# Altium footprint library HyTechDevices.PCBLIB: 298 footprints (part 2 of 19)
Each footprint in its own frame and in the unit in brackets; x right, y up, seen from the top. Pads: shape width x height; smd on the part's side, far side on the other; paste and mask are expansions set on the pad; w line width, h text height; cw(c..) or ccw(c..) is an arc to the next point about the centre after c.
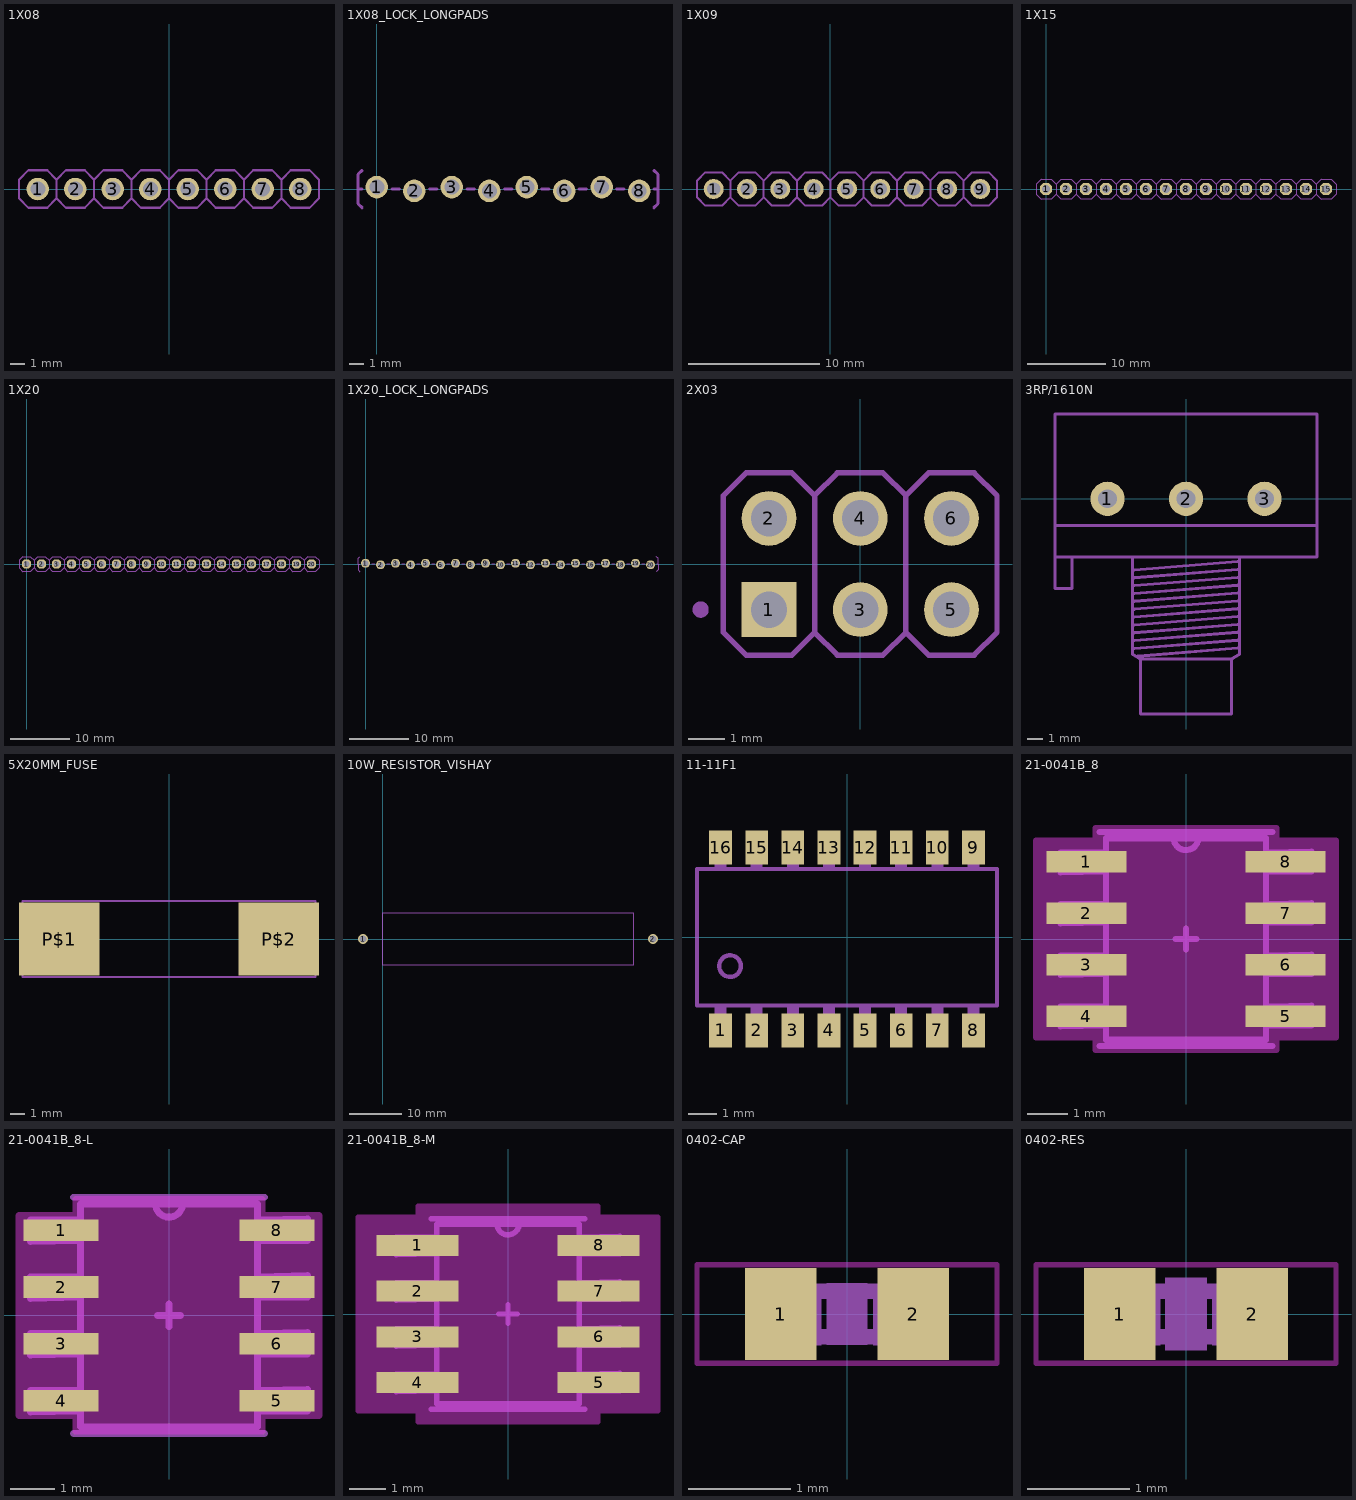
[diagram p1: the footprints below, top view; thin cyan lines are the x and y axes]

## 1X08 [mil]
pads (8):
  round 60 hole 40: 1(-350,0) 2(-250,0) 3(-150,0) 4(-50,0) 5(50,0) 6(150,0) 7(250,0) 8(350,0)
Mechanical 3:
  region: 240,-10 240,10 260,10 260,-10
  region: 140,-10 140,10 160,10 160,-10
  region: 40,-10 40,10 60,10 60,-10
  region: -60,-10 -60,10 -40,10 -40,-10
  region: -160,-10 -160,10 -140,10 -140,-10
  region: -260,-10 -260,10 -240,10 -240,-10
  region: -360,-10 -360,10 -340,10 -340,-10
  region: 340,-10 340,10 360,10 360,-10
Mechanical 7:
  lines w6: -300,-25 -300,25 ; -300,-25 -325,-50 -375,-50 -400,-25 -400,25 -375,50 -325,50 -300,25 ; -300,-25 -275,-50 -225,-50 -200,-25 ; -300,25 -275,50 -225,50 -200,25 ; -200,-25 -175,-50 -125,-50 -100,-25 ; -200,-25 -200,25 ; -200,25 -175,50 -125,50 -100,25 ; -100,-25 -100,25 ; -100,-25 -75,-50 -25,-50 0,-25 ; -100,25 -75,50 -25,50 0,25 ; 0,-25 0,25 ; 0,-25 25,-50 75,-50 100,-25 ; 0,25 25,50 75,50 100,25 ; 100,-25 125,-50 175,-50 200,-25 ; 100,-25 100,25 ; 100,25 125,50 175,50 200,25 ; 200,-25 200,25 ; 200,-25 225,-50 275,-50 300,-25 ; 200,25 225,50 275,50 300,25 ; 300,-25 300,25 ; 300,-25 325,-50 375,-50 400,-25 400,25 375,50 325,50 300,25

## 1X08_LOCK_LONGPADS [mil]
pads (8):
  round 60 hole 40: 1(0,5) 2(100,-5) 3(200,5) 4(300,-5) 5(400,5) 6(500,-5) 7(600,5) 8(700,-5)
Mechanical 3:
  region: -11.5,-11.5 -11.5,11.5 11.5,11.5 11.5,-11.5
  region: 88.5,-11.5 88.5,11.5 111.5,11.5 111.5,-11.5
  region: 188.5,-11.5 188.5,11.5 211.5,11.5 211.5,-11.5
  region: 311.5,-11.5 288.5,-11.5 288.5,11.5 311.5,11.5
  region: 388.5,-11.5 388.5,11.5 411.5,11.5 411.5,-11.5
  region: 488.5,-11.5 488.5,11.5 511.5,11.5 511.5,-11.5
  region: 588.5,-11.5 588.5,11.5 611.5,11.5 611.5,-11.5
  region: 688.5,-11.5 688.5,11.5 711.5,11.5 711.5,-11.5
Mechanical 7:
  lines w8: -40,0 -50,0 ; -39,-50 -50,-39 -50,0 ; -39,50 -50,39 -50,0 ; 40,0 60,0 ; 140,0 160,0 ; 240,0 260,0 ; 340,0 360,0 ; 440,0 460,0 ; 540,0 560,0 ; 640,0 660,0 ; 739,-50 750,-39 750,0 ; 739,50 750,39 750,0 ; 740,0 750,0

## 1X09 [mil]
pads (9):
  round 60 hole 40: 1(-350,0) 2(-250,0) 3(-150,0) 4(-50,0) 5(50,0) 6(150,0) 7(250,0) 8(350,0) 9(450,0)
Mechanical 3:
  region: 240,-10 240,10 260,10 260,-10
  region: 140,-10 140,10 160,10 160,-10
  region: 40,-10 40,10 60,10 60,-10
  region: -60,-10 -60,10 -40,10 -40,-10
  region: -160,-10 -160,10 -140,10 -140,-10
  region: -260,-10 -260,10 -240,10 -240,-10
  region: -360,-10 -360,10 -340,10 -340,-10
  region: 340,-10 340,10 360,10 360,-10
  region: 440,-10 440,10 460,10 460,-10
Mechanical 7:
  lines w6: -300,-25 -300,25 ; -300,-25 -325,-50 -375,-50 -400,-25 -400,25 -375,50 -325,50 -300,25 ; -300,-25 -275,-50 -225,-50 -200,-25 ; -300,25 -275,50 -225,50 -200,25 ; -200,-25 -175,-50 -125,-50 -100,-25 ; -200,-25 -200,25 ; -200,25 -175,50 -125,50 -100,25 ; -100,-25 -100,25 ; -100,-25 -75,-50 -25,-50 0,-25 ; -100,25 -75,50 -25,50 0,25 ; 0,-25 0,25 ; 0,-25 25,-50 75,-50 100,-25 ; 0,25 25,50 75,50 100,25 ; 100,-25 125,-50 175,-50 200,-25 ; 100,-25 100,25 ; 100,25 125,50 175,50 200,25 ; 200,-25 200,25 ; 200,-25 225,-50 275,-50 300,-25 ; 200,25 225,50 275,50 300,25 ; 300,-25 300,25 ; 300,-25 325,-50 375,-50 400,-25 ; 300,25 325,50 375,50 400,25 ; 400,-25 400,25 ; 400,-25 425,-50 475,-50 500,-25 500,25 475,50 425,50 400,25

## 1X15 [mil]
pads (15):
  oct 60x60 / inner round 55.43 / far side oct 60x60 hole 40: 1(0,0) 2(100,0) 3(200,0) 4(300,0) 5(400,0) 6(500,0) 7(600,0) 8(700,0) 9(800,0) 10(900,0) 11(1000,0) 12(1100,0) 13(1200,0) 14(1300,0) 15(1400,0)
Mechanical 3:
  region: 590,-10 590,10 610,10 610,-10
  region: 490,-10 490,10 510,10 510,-10
  region: 390,-10 390,10 410,10 410,-10
  region: 290,-10 290,10 310,10 310,-10
  region: 190,-10 190,10 210,10 210,-10
  region: 90,-10 90,10 110,10 110,-10
  region: -10,-10 -10,10 10,10 10,-10
  region: 690,-10 690,10 710,10 710,-10
  region: 1390,-10 1390,10 1410,10 1410,-10
  region: 1290,-10 1290,10 1310,10 1310,-10
  region: 1190,-10 1190,10 1210,10 1210,-10
  region: 1090,-10 1090,10 1110,10 1110,-10
  region: 990,-10 990,10 1010,10 1010,-10
  region: 890,-10 890,10 910,10 910,-10
  region: 790,-10 790,10 810,10 810,-10
Mechanical 7:
  lines w6: 50,-25 50,25 ; 50,-25 25,-50 -25,-50 -50,-25 -50,25 -25,50 25,50 50,25 ; 50,-25 75,-50 125,-50 150,-25 ; 50,25 75,50 125,50 150,25 ; 150,-25 175,-50 225,-50 250,-25 ; 150,-25 150,25 ; 150,25 175,50 225,50 250,25 ; 250,-25 250,25 ; 250,-25 275,-50 325,-50 350,-25 ; 250,25 275,50 325,50 350,25 ; 350,-25 350,25 ; 350,-25 375,-50 425,-50 450,-25 ; 350,25 375,50 425,50 450,25 ; 450,-25 475,-50 525,-50 550,-25 ; 450,-25 450,25 ; 450,25 475,50 525,50 550,25 ; 550,-25 550,25 ; 550,-25 575,-50 625,-50 650,-25 ; 550,25 575,50 625,50 650,25 ; 650,-25 650,25 ; 650,-25 675,-50 725,-50 750,-25 ; 650,25 675,50 725,50 750,25 ; 750,-25 750,25 ; 750,-25 775,-50 825,-50 850,-25 ; 750,25 775,50 825,50 850,25 ; 850,-25 850,25 ; 850,-25 875,-50 925,-50 950,-25 ; 850,25 875,50 925,50 950,25 ; 950,-25 975,-50 1025,-50 1050,-25 ; 950,-25 950,25 ; 950,25 975,50 1025,50 1050,25 ; 1050,-25 1050,25 ; 1050,-25 1075,-50 1125,-50 1150,-25 ; 1050,25 1075,50 1125,50 1150,25 ; 1150,-25 1150,25 ; 1150,-25 1175,-50 1225,-50 1250,-25 ; 1150,25 1175,50 1225,50 1250,25 ; 1250,-25 1275,-50 1325,-50 1350,-25 ; 1250,-25 1250,25 ; 1250,25 1275,50 1325,50 1350,25 ; 1350,-25 1350,25 ; 1350,-25 1375,-50 1425,-50 1450,-25 1450,25 1425,50 1375,50 1350,25

## 1X20 [mil]
pads (20):
  oct 60x60 / inner round 55.43 / far side oct 60x60 hole 40: 1(0,0) 2(100,0) 3(200,0) 4(300,0) 5(400,0) 6(500,0) 7(600,0) 8(700,0) 9(800,0) 10(900,0) 11(1000,0) 12(1100,0) 13(1200,0) 14(1300,0) 15(1400,0) 16(1500,0) 17(1600,0) 18(1700,0) 19(1800,0) 20(1900,0)
Mechanical 3:
  region: 590,-10 590,10 610,10 610,-10
  region: 490,-10 490,10 510,10 510,-10
  region: 390,-10 390,10 410,10 410,-10
  region: 290,-10 290,10 310,10 310,-10
  region: 190,-10 190,10 210,10 210,-10
  region: 90,-10 90,10 110,10 110,-10
  region: -10,-10 -10,10 10,10 10,-10
  region: 690,-10 690,10 710,10 710,-10
  region: 1390,-10 1390,10 1410,10 1410,-10
  region: 1290,-10 1290,10 1310,10 1310,-10
  region: 1190,-10 1190,10 1210,10 1210,-10
  region: 1090,-10 1090,10 1110,10 1110,-10
  region: 990,-10 990,10 1010,10 1010,-10
  region: 890,-10 890,10 910,10 910,-10
  region: 790,-10 790,10 810,10 810,-10
  region: 1490,-10 1490,10 1510,10 1510,-10
  region: 1790,-10 1790,10 1810,10 1810,-10
  region: 1690,-10 1690,10 1710,10 1710,-10
  region: 1590,-10 1590,10 1610,10 1610,-10
  region: 1890,-10 1890,10 1910,10 1910,-10
Mechanical 7:
  lines w6: 50,-25 50,25 ; 50,-25 25,-50 -25,-50 -50,-25 -50,25 -25,50 25,50 50,25 ; 50,-25 75,-50 125,-50 150,-25 ; 50,25 75,50 125,50 150,25 ; 150,-25 175,-50 225,-50 250,-25 ; 150,-25 150,25 ; 150,25 175,50 225,50 250,25 ; 250,-25 250,25 ; 250,-25 275,-50 325,-50 350,-25 ; 250,25 275,50 325,50 350,25 ; 350,-25 350,25 ; 350,-25 375,-50 425,-50 450,-25 ; 350,25 375,50 425,50 450,25 ; 450,-25 475,-50 525,-50 550,-25 ; 450,-25 450,25 ; 450,25 475,50 525,50 550,25 ; 550,-25 550,25 ; 550,-25 575,-50 625,-50 650,-25 ; 550,25 575,50 625,50 650,25 ; 650,-25 650,25 ; 650,-25 675,-50 725,-50 750,-25 ; 650,25 675,50 725,50 750,25 ; 750,-25 750,25 ; 750,-25 775,-50 825,-50 850,-25 ; 750,25 775,50 825,50 850,25 ; 850,-25 850,25 ; 850,-25 875,-50 925,-50 950,-25 ; 850,25 875,50 925,50 950,25 ; 950,-25 975,-50 1025,-50 1050,-25 ; 950,-25 950,25 ; 950,25 975,50 1025,50 1050,25 ; 1050,-25 1050,25 ; 1050,-25 1075,-50 1125,-50 1150,-25 ; 1050,25 1075,50 1125,50 1150,25 ; 1150,-25 1150,25 ; 1150,-25 1175,-50 1225,-50 1250,-25 ; 1150,25 1175,50 1225,50 1250,25 ; 1250,-25 1275,-50 1325,-50 1350,-25 ; 1250,-25 1250,25 ; 1250,25 1275,50 1325,50 1350,25 ; 1350,-25 1350,25 ; 1350,-25 1375,-50 1425,-50 1450,-25 ; 1350,25 1375,50 1425,50 1450,25 ; 1450,-25 1450,25 ; 1450,-25 1475,-50 1525,-50 1550,-25 ; 1450,25 1475,50 1525,50 1550,25 ; 1550,-25 1550,25 ; 1550,-25 1575,-50 1625,-50 1650,-25 ; 1550,25 1575,50 1625,50 1650,25 ; 1650,-25 1675,-50 1725,-50 1750,-25 ; 1650,-25 1650,25 ; 1650,25 1675,50 1725,50 1750,25 ; 1750,-25 1750,25 ; 1750,-25 1775,-50 1825,-50 1850,-25 ; 1750,25 1775,50 1825,50 1850,25 ; 1850,-25 1850,25 ; 1850,-25 1875,-50 1925,-50 1950,-25 1950,25 1925,50 1875,50 1850,25

## 1X20_LOCK_LONGPADS [mil]
pads (20):
  round 60 hole 40: 1(0,5) 2(100,-5) 3(200,5) 4(300,-5) 5(400,5) 6(500,-5) 7(600,5) 8(700,-5) 9(800,5) 10(900,-5) 11(1000,5) 12(1100,-5) 13(1200,5) 14(1300,-5) 15(1400,5) 16(1500,-5) 17(1600,5) 18(1700,-5) 19(1800,5) 20(1900,-5)
Mechanical 3:
  region: -11.5,-11.5 -11.5,11.5 11.5,11.5 11.5,-11.5
  region: 88.5,-11.5 88.5,11.5 111.5,11.5 111.5,-11.5
  region: 188.5,-11.5 188.5,11.5 211.5,11.5 211.5,-11.5
  region: 311.5,-11.5 288.5,-11.5 288.5,11.5 311.5,11.5
  region: 388.5,-11.5 388.5,11.5 411.5,11.5 411.5,-11.5
  region: 488.5,-11.5 488.5,11.5 511.5,11.5 511.5,-11.5
  region: 588.5,-11.5 588.5,11.5 611.5,11.5 611.5,-11.5
  region: 688.5,-11.5 688.5,11.5 711.5,11.5 711.5,-11.5
  region: 788.5,-11.5 788.5,11.5 811.5,11.5 811.5,-11.5
  region: 911.5,-11.5 888.5,-11.5 888.5,11.5 911.5,11.5
  region: 988.5,-11.5 988.5,11.5 1011.5,11.5 1011.5,-11.5
  region: 1088.5,-11.5 1088.5,11.5 1111.5,11.5 1111.5,-11.5
  region: 1188.5,-11.5 1188.5,11.5 1211.5,11.5 1211.5,-11.5
  region: 1288.5,-11.5 1288.5,11.5 1311.5,11.5 1311.5,-11.5
  region: 1388.5,-11.5 1388.5,11.5 1411.5,11.5 1411.5,-11.5
  region: 1511.5,-11.5 1488.5,-11.5 1488.5,11.5 1511.5,11.5
  region: 1588.5,-11.5 1588.5,11.5 1611.5,11.5 1611.5,-11.5
  region: 1688.5,-11.5 1688.5,11.5 1711.5,11.5 1711.5,-11.5
  region: 1788.5,-11.5 1788.5,11.5 1811.5,11.5 1811.5,-11.5
  region: 1888.5,-11.5 1888.5,11.5 1911.5,11.5 1911.5,-11.5
Mechanical 7:
  lines w8: -40,0 -50,0 ; -39,-50 -50,-39 -50,0 ; -39,50 -50,39 -50,0 ; 40,0 60,0 ; 140,0 160,0 ; 240,0 260,0 ; 340,0 360,0 ; 440,0 460,0 ; 540,0 560,0 ; 640,0 660,0 ; 740,0 760,0 ; 840,0 860,0 ; 940,0 960,0 ; 1040,0 1060,0 ; 1140,0 1160,0 ; 1240,0 1250,0 1260,0 ; 1340,0 1360,0 ; 1440,0 1460,0 ; 1540,0 1560,0 ; 1640,0 1660,0 ; 1740,0 1760,0 ; 1840,0 1860,0 ; 1939,-50 1950,-39 1950,0 ; 1939,50 1950,39 1950,0 ; 1940,0 1950,0

## 2X03 [mil]
pads (6):
  rect 60x60 / inner round 55.43 / far side rect 60x60 hole 40: 1(-100,-50)
  round 60 hole 40: 2(-100,50) 3(0,-50) 4(0,50) 5(100,-50) 6(100,50)
Mechanical 3:
  region: -110,-60 -110,-40 -90,-40 -90,-60
  region: -110,40 -110,60 -90,60 -90,40
  region: -10,40 -10,60 10,60 10,40
  region: -10,-60 -10,-40 10,-40 10,-60
  region: 90,40 90,60 110,60 110,40
  region: 90,-60 90,-40 110,-40 110,-60
Mechanical 7:
  circle w10: c-175,-50 r3.94
  lines w6: -50,-75 -75,-100 -125,-100 -150,-75 -150,75 -125,100 -75,100 -50,75 ; -50,-75 -25,-100 25,-100 50,-75 ; -50,-75 -50,75 ; -50,75 -25,100 25,100 50,75 ; 50,-75 50,75 ; 50,-75 75,-100 125,-100 150,-75 150,75 125,100 75,100 50,75

## 3RP/1610N [mil]
pads (3):
  round 86 hole 47.24: 1(-196.85,0) 2(0,0) 3(196.85,0)
Mechanical 7:
  lines w8: -328.74,-66.93 328.74,-66.93 ; -285.43,-149.61 -285.43,-224.41 -328.74,-224.41 -328.74,-145.67 ; -133.86,-149.61 -133.86,-389.76 -114.17,-401.57 ; -129.92,-375 129.92,-354.33 ; -129.92,-355.32 129.92,-334.65 ; -129.92,-335.63 129.92,-314.96 ; -129.92,-315.94 129.92,-295.28 ; -129.92,-296.26 129.92,-275.59 ; -129.92,-276.57 129.92,-255.91 ; -129.92,-256.89 129.92,-236.22 ; -129.92,-237.2 129.92,-216.54 ; -129.92,-217.52 129.92,-196.85 ; -129.92,-197.83 129.92,-177.17 ; -129.92,-178.15 129.92,-157.48 ; -121.06,-394.69 129.92,-374.02 ; 133.86,-149.61 133.86,-389.76 114.17,-401.57 ; -328.74,-145.67 328.74,-145.67 328.74,212.6 -328.74,212.6 -328.74,-145.67 ; -114.17,-401.57 -114.17,-539.37 114.17,-539.37 114.17,-401.57 ; -114.17,-401.57 114.17,-401.57

## 5X20MM_FUSE [mm]
pads (2):
  rect 5.5x5 smd: P$1(-7.5,0) P$2(7.5,0)
Mechanical 7:
  lines w0.127: -10,-2.6 10,-2.6 10,2.6 -10,2.6 -10,-2.6

## 10W_RESISTOR_VISHAY [mil]
pads (2):
  round 76.77 hole 51.18: 1(-150,0) 2(2050,0)
Mechanical 7:
  lines w5: 0,-200 0,200 1900,200 1900,-200 0,-200
  text "POWER RESISTOR" at 600,0 h77.5

## 11-11F1 [mil]
pads (16):
  rect 31.5x47.24 smd: 1(-175,-129.02) 2(-125,-129.02) 3(-75,-129.02) 4(-25,-129.02) 5(25,-129.02) 6(75,-129.02) 7(125,-129.02) 8(175,-129.02) 9(175,124.02) 10(125,124.02) 11(75,124.02) 12(25,124.02) 13(-25,124.02) 14(-75,124.02) 15(-125,124.02) 16(-175,124.02)
Mechanical 3:
  region: 167,93.02 167,133.02 183,133.02 183,93.02
  region: 117,93.02 117,133.02 133,133.02 133,93.02
  region: 67,93.02 67,133.02 83,133.02 83,93.02
  region: 17,93.02 17,133.02 33,133.02 33,93.02
  region: -33,93.02 -33,133.02 -17,133.02 -17,93.02
  region: -83,93.02 -83,133.02 -67,133.02 -67,93.02
  region: -133,93.02 -133,133.02 -117,133.02 -117,93.02
  region: -183,93.02 -183,133.02 -167,133.02 -167,93.02
  region: -183,-133.02 -183,-93.02 -167,-93.02 -167,-133.02
  region: -133,-133.02 -133,-93.02 -117,-93.02 -117,-133.02
  region: -83,-133.02 -83,-93.02 -67,-93.02 -67,-133.02
  region: -33,-133.02 -33,-93.02 -17,-93.02 -17,-133.02
  region: 17,-133.02 17,-93.02 33,-93.02 33,-133.02
  region: 67,-133.02 67,-93.02 83,-93.02 83,-133.02
  region: 117,-133.02 117,-93.02 133,-93.02 133,-133.02
  region: 167,-133.02 167,-93.02 183,-93.02 183,-133.02
Mechanical 7:
  circle w6: c-162,-40 r15
  lines w6: -207.68,-94.49 207.68,-94.49 207.68,94.49 -207.68,94.49 -207.68,-94.49
  text "16" at -145,-5 h62

## 21-0041B_8 [mil]
pads (8):
  rect 78x21 smd: 1(-97,75) 2(-97,25) 3(-97,-25) 4(-97,-75) 5(97,-75) 6(97,-25) 7(97,25) 8(97,75)
Top Layer keep-out:
  region: -146,-95.5 -146,95.5 -88.5,95.5 -88.5,108.5 88.5,108.5 88.5,95.5 146,95.5 146,-95.5 88.5,-95.5 88.5,-108.5 -88.5,-108.5 -88.5,-95.5
  lines w6: -146,-96 -146,96 -88,96 -88,108 88,108 88,96 146,96 146,-96 88,-96 88,-108 -88,-108 -88,-96 -146,-96
Mechanical 3:
  lines w6: 12,99 cw(c0,98.5) -12,98 ; -12,98 78,98 78,-98 -78,-98 -78,98 -12,98 ; -122,-85 -122,-66 -78,-66 -78,-84 -122,-85 ; -122,-35 -122,-16 -78,-16 -78,-34 -122,-35 ; -122,15 -122,34 -79,34 -78,16 -122,15 ; -122,65 -122,84 -79,84 -78,66 -122,65 ; 78,-66 79,-84 122,-84 122,-65 78,-66 ; 78,-34 78,-16 122,-15 122,-34 78,-34 ; 78,16 78,34 122,35 122,16 78,16 ; 78,66 78,84 122,85 122,66 78,66
  text "*" at -86,46 h77.5
Mechanical 7:
  lines w6: -84,-104 84,-104 ; -84,104 84,104
  text "*" at -130,91 h77.5
Top Component Center:
  lines w6: -10,0 10,0 ; 0,-10 0,10

## 21-0041B_8-L [mil]
pads (8):
  rect 66x19 smd: 1(-95,75) 2(-95,25) 3(-95,-25) 4(-95,-75) 5(95,-75) 6(95,-25) 7(95,25) 8(95,75)
Top Layer keep-out:
  region: -132,-88.5 -132,88.5 -82.5,88.5 -82.5,102.5 82.5,102.5 82.5,88.5 132,88.5 132,-88.5 82.5,-88.5 82.5,-102.5 -82.5,-102.5 -82.5,-88.5
  lines w6: -132,-88 -132,88 -82,88 -82,102 82,102 82,88 132,88 132,-88 82,-88 82,-102 -82,-102 -82,-88 -132,-88
Mechanical 3:
  lines w6: 12,99 cw(c0,98.5) -12,98 ; -12,98 78,98 78,-98 -78,-98 -78,98 -12,98 ; -122,-85 -122,-66 -78,-66 -78,-84 -122,-85 ; -122,-35 -122,-16 -78,-16 -78,-34 -122,-35 ; -122,15 -122,34 -79,34 -78,16 -122,15 ; -122,65 -122,84 -79,84 -78,66 -122,65 ; 78,-66 79,-84 122,-84 122,-65 78,-66 ; 78,-34 78,-16 122,-15 122,-34 78,-34 ; 78,16 78,34 122,35 122,16 78,16 ; 78,66 78,84 122,85 122,66 78,66
  text "*" at -86,46 h77.5
Mechanical 7:
  lines w6: -84,-104 84,-104 ; -84,104 84,104
  text "*" at -128,89 h77.5
Top Component Center:
  lines w6: -10,0 10,0 ; 0,-10 0,10

## 21-0041B_8-M [mil]
pads (8):
  rect 90x23 smd: 1(-99,75) 2(-99,25) 3(-99,-25) 4(-99,-75) 5(99,-75) 6(99,-25) 7(99,25) 8(99,75)
Top Layer keep-out:
  region: -164,-106.5 -164,106.5 -98.5,106.5 -98.5,118.5 98.5,118.5 98.5,106.5 164,106.5 164,-106.5 98.5,-106.5 98.5,-118.5 -98.5,-118.5 -98.5,-106.5
  lines w6: -164,-106 -164,106 -98,106 -98,118 98,118 98,106 164,106 164,-106 98,-106 98,-118 -98,-118 -98,-106 -164,-106
Mechanical 3:
  lines w6: 12,99 cw(c0,98.5) -12,98 ; -12,98 78,98 78,-98 -78,-98 -78,98 -12,98 ; -122,-85 -122,-66 -78,-66 -78,-84 -122,-85 ; -122,-35 -122,-16 -78,-16 -78,-34 -122,-35 ; -122,15 -122,34 -79,34 -78,16 -122,15 ; -122,65 -122,84 -79,84 -78,66 -122,65 ; 78,-66 79,-84 122,-84 122,-65 78,-66 ; 78,-34 78,-16 122,-15 122,-34 78,-34 ; 78,16 78,34 122,35 122,16 78,16 ; 78,66 78,84 122,85 122,66 78,66
  text "*" at -86,46 h77.5
Mechanical 7:
  lines w6: -84,-104 84,-104 ; -84,104 84,104
  text "*" at -132,93 h77.5
Top Component Center:
  lines w6: -10,0 10,0 ; 0,-10 0,10

## 0402-CAP [mm]
pads (2):
  rect 0.7x0.9 smd: 1(-0.65,0) 2(0.65,0)
Top Layer keep-out:
  lines w0.051: -1.473,-0.483 1.473,-0.483 1.473,0.483 -1.473,0.483 -1.473,-0.483
Mechanical 3:
  region: -0.554,-0.305 -0.554,0.295 -0.254,0.295 -0.254,-0.305
  region: 0.259,-0.305 0.259,0.295 0.559,0.295 0.559,-0.305
  lines w0.152: -0.245,-0.224 0.245,-0.224 ; -0.245,0.224 0.245,0.224
Mechanical 7:
  lines w0.406: 0,-0.03 0,0.03
Top Glue Points:
  region: -0.2,-0.3 -0.2,0.3 0.2,0.3 0.2,-0.3

## 0402-RES [mm]
pads (2):
  rect 0.7x0.9 smd: 1(-0.65,0) 2(0.65,0)
Top Layer keep-out:
  lines w0.051: -1.473,-0.483 1.473,-0.483 1.473,0.483 -1.473,0.483 -1.473,-0.483
Mechanical 3:
  region: -0.554,-0.305 -0.554,0.295 -0.254,0.295 -0.254,-0.305
  region: 0.259,-0.305 0.259,0.295 0.559,0.295 0.559,-0.305
  lines w0.152: -0.245,-0.224 0.245,-0.224 ; -0.245,0.224 0.245,0.224
Mechanical 7:
  region: -0.203,-0.356 -0.203,0.356 0.203,0.356 0.203,-0.356
Top Glue Points:
  region: -0.2,-0.3 -0.2,0.3 0.2,0.3 0.2,-0.3